# Altium footprint library Connectors_TE.PcbLib: 5 footprints
Each footprint in its own frame and in the unit in brackets; x right, y up, seen from the top. Pads: shape width x height; smd on the part's side, far side on the other; paste and mask are expansions set on the pad; w line width, h text height; cw(c..) or ccw(c..) is an arc to the next point about the centre after c.
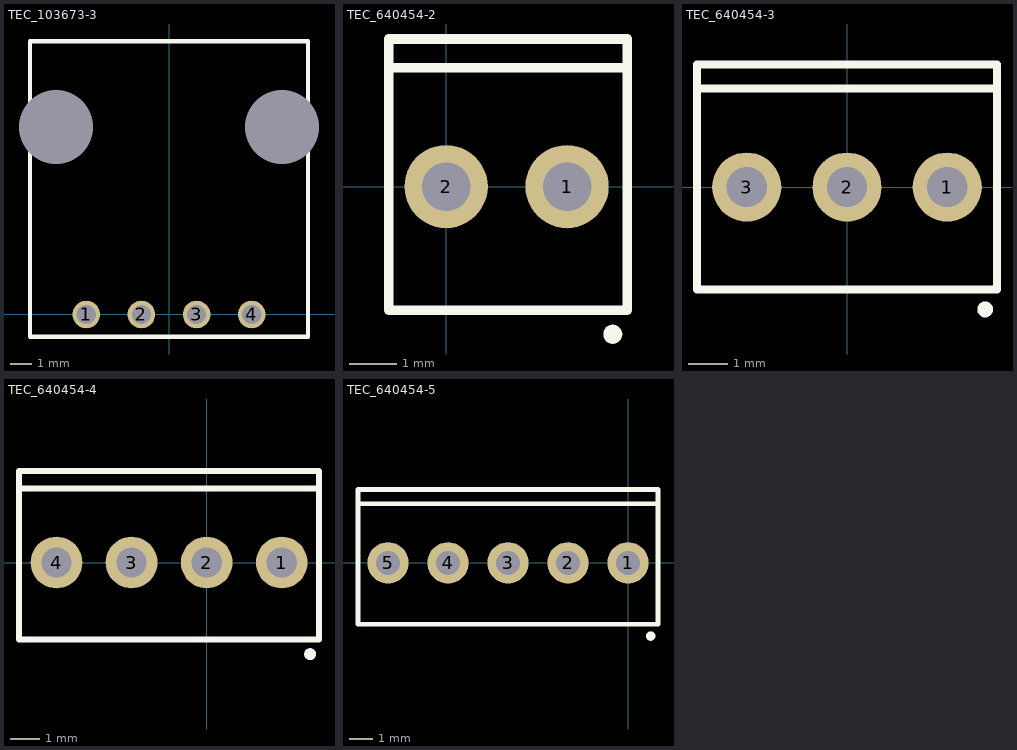
[diagram p0: the footprints below, top view; thin cyan lines are the x and y axes]

## TEC_103673-3 [mil]
height 7
pads (6):
  round 0 hole 133.86: 0(-205,340) 0(205,340)
  round 50 hole 35: 1(-150,0) 2(-50,0) 3(50,0) 4(150,0)
Top Overlay:
  lines w8: -251.97,-40 -251.97,495 251.97,495 251.97,-40 -251.97,-40
3D body: height 275.59, standoff 0, extent -251.97,-40 251.97,495

## TEC_640454-2 [mm] "2.54mm pitch header with tab"
height 7.5
pads (2):
  round 1.75 hole 1.02: 1(2.54,0) 2(0,0)
Top Overlay:
  circle w0.2: c3.5,-3.1 r0.1
  lines w0.2: -1.2,2.5 3.8,2.5 ; -1.2,-2.6 3.8,-2.6 3.8,3.1 -1.2,3.1 -1.2,-2.6

## TEC_640454-3 [mm] "2.54mm pitch header with tab"
height 7.5
pads (3):
  round 1.75 hole 1.02: 1(2.54,0) 2(0,0) 3(-2.54,0)
Top Overlay:
  circle w0.2: c3.5,-3.1 r0.1
  lines w0.2: -3.8,2.5 3.8,2.5 ; -3.8,-2.6 -3.8,3.1 3.8,3.1 3.8,-2.6 -3.8,-2.6

## TEC_640454-4 [mm] "2.54mm pitch header with tab"
height 7.5
pads (4):
  round 1.75 hole 1.02: 1(2.54,0) 2(0,0) 3(-2.54,0) 4(-5.08,0)
Top Overlay:
  circle w0.2: c3.5,-3.1 r0.1
  lines w0.2: -6.35,2.5 3.8,2.5 ; -6.35,-2.6 -6.35,3.1 3.8,3.1 3.8,-2.6 -6.35,-2.6

## TEC_640454-5 [mm] "2.54mm pitch header with tab"
height 7.5
pads (5):
  round 1.75 hole 1.02: 1(0,0) 2(-2.54,0) 3(-5.08,0) 4(-7.62,0) 5(-10.16,0)
Top Overlay:
  circle w0.2: c0.96,-3.1 r0.1
  lines w0.2: -11.43,2.5 1.26,2.5 ; -11.43,-2.6 1.27,-2.6 1.27,3.1 -11.43,3.1 -11.43,-2.6